# Altium footprint library MIC2930133WUTR.PcbLib: 1 footprints
Each footprint in its own frame and in the unit in brackets; x right, y up, seen from the top. Pads: shape width x height; smd on the part's side, far side on the other; paste and mask are expansions set on the pad; w line width, h text height; cw(c..) or ccw(c..) is an arc to the next point about the centre after c.
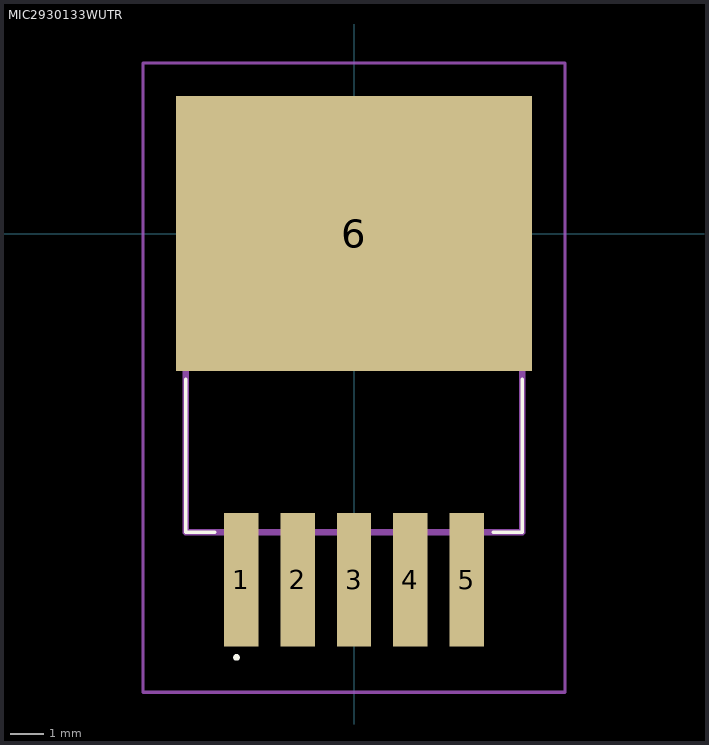
[diagram p0: the footprint, top view; thin cyan lines are the x and y axes]

## MIC2930133WUTR [mm]
pads (6):
  rect 1.041x4.038 smd: 1(-3.404,-10.452) 2(-1.702,-10.452) 3(0,-10.452) 4(1.702,-10.452) 5(3.404,-10.452)
  rect 10.744x8.306 smd: 6(0,0)
Top Overlay:
  lines w0.1: -5.08,-4.4 -5.08,-9.017 -4.2,-9.017 ; 4.2,-9.017 5.08,-9.017 5.08,-4.4 ; -3.6,-12.8 -3.6,-12.8 ; -3.6,-12.8 ccw(c-3.55,-12.8) -3.5,-12.8 ; -3.6,-12.8 cw(c-3.55,-12.8) -3.5,-12.8 ; -3.5,-12.8 -3.5,-12.8
Mechanical 15:
  lines w0.2: -5.08,-9.017 5.08,-9.017 5.08,0 -5.08,0 -5.08,-9.017
Mechanical 20:
  lines w0.1: -6.372,-13.85 6.372,-13.85 6.372,5.153 -6.372,5.153 -6.372,-13.85